# EAGLE library part SI-50170 (library con-stewart)
Ethernet Connector MagJack (R) Source: www.stewartconnector.com .. si-50170.pdf
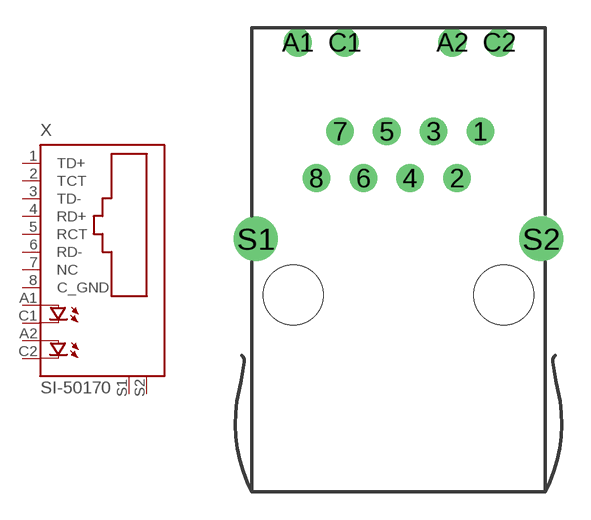
[diagram p0: symbol with the pads of SI-50170; footprint SI-50170]

Designator prefix X

## SI-50170 (OC_FARNELL: unknown; OC_NEWARK: unknown)  [SI-50170]
1  TD+  pas
2  TCT  pas
3  TD-  pas
4  RD+  pas
5  RCT  pas
6  RD-  pas
7  NC  pas
8  C_GND  pas
A1  A  pas
A2  A1  pas
C1  C  pas
C2  C1  pas
S1  S1  pas
S2  S2  pas

## Footprint SI-50170 (pad centres in mm)
Ethernet Connector (MagJack) Source: si-50170.pdf
drill 0.9 pad 1.5: 1 4.445,5.842; 2 3.175,3.302; 3 1.905,5.842; 4 0.635,3.302; 5 -0.635,5.842; 6 -1.905,3.302; 7 -3.175,5.842; 8 -4.445,3.302
drill 1.016 pad 1.5: A1 -5.461,10.668; A2 2.921,10.668; C1 -2.921,10.668; C2 5.461,10.668
drill 1.6 pad 2.2: S1 -7.747,0; S2 7.747,0
hole 3.251 at -5.715,-3.048
hole 3.251 at 5.715,-3.048